# EAGLE library part FT232R (library dooba)
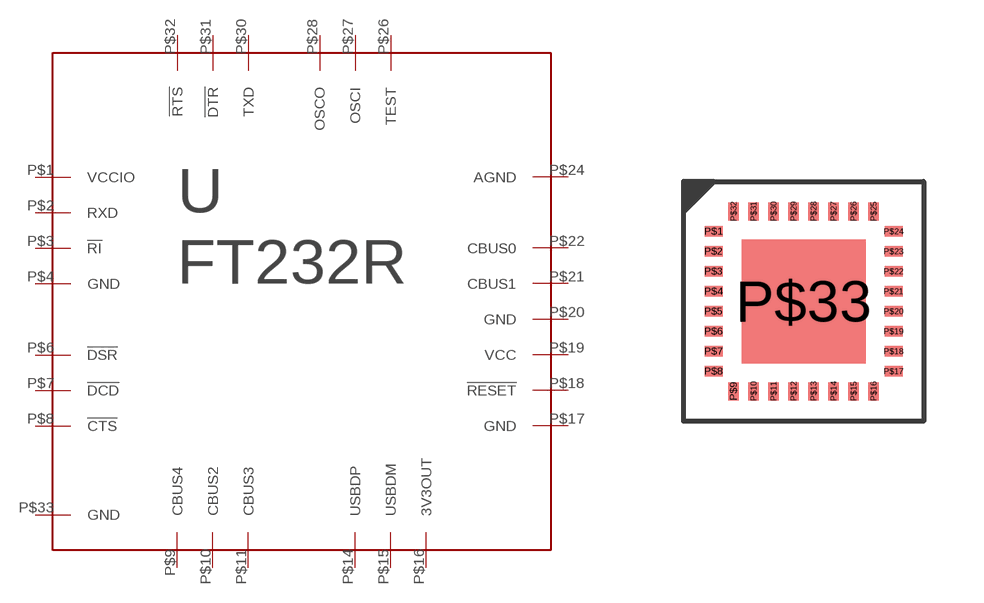
[diagram p16: symbol with the pads of 32-VQFN; footprint 32-VQFN]

Designator prefix U

## FT232RQFN32  [32-VQFN]
P$1  VCCIO
P$2  RXD
P$3  !RI
P$4  GND
P$6  !DSR
P$7  !DCD
P$8  !CTS
P$9  CBUS4
P$10  CBUS2
P$11  CBUS3
P$14  USBDP
P$15  USBDM
P$16  3V3OUT
P$17  GND
P$18  !RESET
P$19  VCC
P$20  GND
P$21  CBUS1
P$22  CBUS0
P$24  AGND
P$26  TEST
P$27  OSCI
P$28  OSCO
P$30  TXD
P$31  !DTR
P$32  !RTS
P$33  GND

## Footprint 32-VQFN (pad centres in mm)
smd 0.45 x 0.26: P$1 -2.25,1.75; P$2 -2.25,1.25; P$3 -2.25,0.75; P$4 -2.25,0.25; P$5 -2.25,-0.25; P$6 -2.25,-0.75; P$7 -2.25,-1.25; P$8 -2.25,-1.75; P$17 2.25,-1.75; P$18 2.25,-1.25; P$19 2.25,-0.75; P$20 2.25,-0.25; P$21 2.25,0.25; P$22 2.25,0.75; P$23 2.25,1.25; P$24 2.25,1.75
smd 0.26 x 0.45: P$9 -1.75,-2.25; P$10 -1.25,-2.25; P$11 -0.75,-2.25; P$12 -0.25,-2.25; P$13 0.25,-2.25; P$14 0.75,-2.25; P$15 1.25,-2.25; P$16 1.75,-2.25; P$25 1.75,2.25; P$26 1.25,2.25; P$27 0.75,2.25; P$28 0.25,2.25; P$29 -0.25,2.25; P$30 -0.75,2.25; P$31 -1.25,2.25; P$32 -1.75,2.25
smd 3.1 x 3.1: P$33 0,0